# Altium footprint library Components - 27.09.24 - 11.34.PcbLib: 1 footprints
Each footprint in its own frame and in the unit in brackets; x right, y up, seen from the top. Pads: shape width x height; smd on the part's side, far side on the other; paste and mask are expansions set on the pad; w line width, h text height; cw(c..) or ccw(c..) is an arc to the next point about the centre after c.
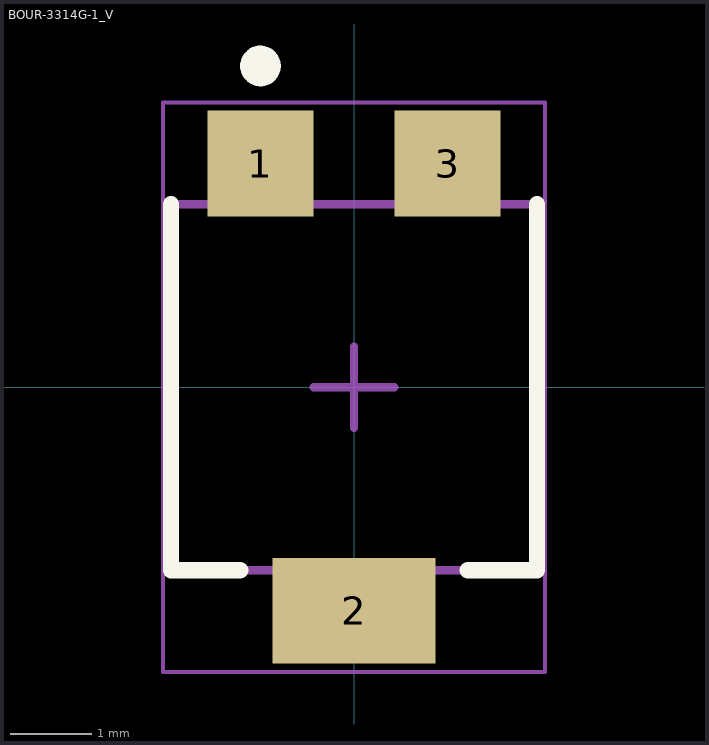
[diagram p0: the footprint, top view; thin cyan lines are the x and y axes]

## BOUR-3314G-1_V [mm] "SMD, 3-Leads, Body 4.5x4.5mm, Pitch 1.15mm"
height 2.8
pads (3):
  rect 1.3x1.3 smd: 1(-1.15,2.75) 3(1.15,2.75)
  rect 2x1.3 smd: 2(0,-2.75)
Top Overlay:
  circle w0.25: c-1.15,3.95 r0.125
  lines w0.2: -2.25,2.25 -2.25,-2.25 -1.4,-2.25 ; 1.4,-2.25 2.25,-2.25 2.25,2.25
Mechanical 13:
  lines w0.1: -2.25,-2.25 -2.25,2.25 2.25,2.25 2.25,-2.25 -2.25,-2.25
Mechanical 15:
  lines w0.05: -2.35,-3.5 -2.35,3.5 2.35,3.5 2.35,-3.5 -2.35,-3.5
  lines w0.1: -0.5,0 0.5,0 ; 0,-0.5 0,0.5
3D body "3314G1.stp": height 2.73, standoff 0, extent -2.499,-3.099 2.5,3.099